# Altium integrated library National Semiconductor Comparator.IntLib: 110 symbols (part 3 of 3)
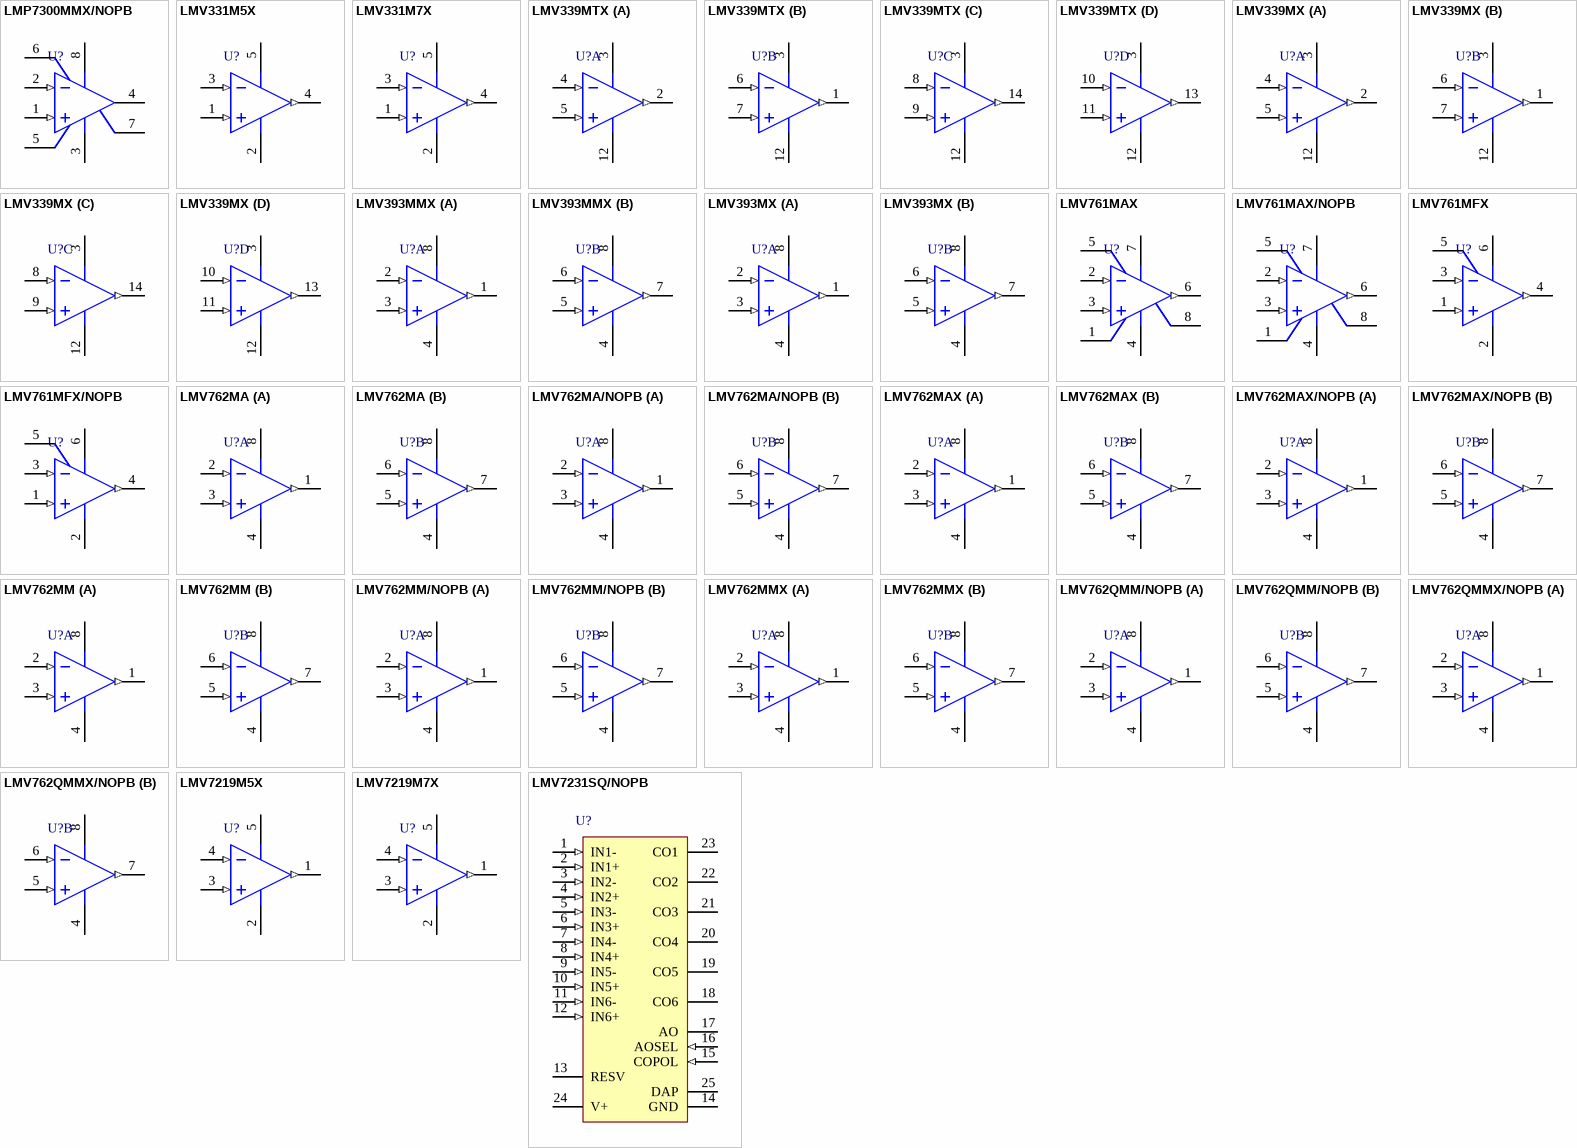
[diagram p6: symbols LMP7300MMX/NOPB to LMV7231SQ/NOPB]

## LMV762MM/NOPB
designator U?
Low Voltage, Precision Comparator with Push-Pull Output, 8-pin Mini SOIC, 1000 Reel; PartNumber: LMV762MM/NOPB; Manufacturer: National Semiconductor; PackageTopMarking: ZXTT*C32A; PowerWise: N; High-Reliability: Y; DatasheetVersion: Dec-2010; PackageVersion: revF, Apr-2008; PackageReference: MUA08A; PackageDescription: MINI SOIC, .118 x .118 x .034in, 8 Lead, .0256in Pitch; RoHS: Y; PinCount: 8; CompType: Comparator; Code_JEDEC: MO-187-AA; ComponentLink1Description: Manufacturer URL; ComponentLink1URL: http://www.national.com/; ComponentLink2Description: LMV762 Datasheet; ComponentLink2URL: http://www.national.com/ds/LM/LMV761.pdf; ComponentLink3Description: LMV762 Web Page; ComponentLink3URL: http://www.national.com/pf/LM/LMV762.html; ComponentLink4Description: MUA08A Package Page; ComponentLink4URL: http://www.national.com/packaging/folders/mua08a.html
footprint MUA08A_N (TSOP, 8-Leads, Body 3x3mm, Pitch 0.65mm, IPC Medium Density)
footprint MUA08A_L (TSOP, 8-Leads, Body 3x3mm, Pitch 0.65mm, IPC High Density)
footprint MUA08A_M (TSOP, 8-Leads, Body 3x3mm, Pitch 0.65mm, IPC Low Density)
pins on every part: 4 V- (power), 8 V+ (power)
part A pins: 1 OUTA (out), 2 INA- (in), 3 INA+ (in)
part B pins: 5 INB+ (in), 6 INB- (in), 7 OUTB (out)

## LMV762MMX
designator U?
Low Voltage, Precision Comparator with Push-Pull Output, 8-pin Mini SOIC, 3500 Reel; PartNumber: LMV762MMX; Manufacturer: National Semiconductor; PackageTopMarking: ZXTT*C23A; PowerWise: N; High-Reliability: Y; DatasheetVersion: Dec-2010; PackageVersion: revF, Apr-2008; PackageReference: MUA08A; PackageDescription: MINI SOIC, .118 x .118 x .034in, 8 Lead, .0256in Pitch; RoHS: N; PinCount: 8; CompType: Comparator; Code_JEDEC: MO-187-AA; ComponentLink1Description: Manufacturer URL; ComponentLink1URL: http://www.national.com/; ComponentLink2Description: LMV762 Datasheet; ComponentLink2URL: http://www.national.com/ds/LM/LMV761.pdf; ComponentLink3Description: LMV762 Web Page; ComponentLink3URL: http://www.national.com/pf/LM/LMV762.html; ComponentLink4Description: MUA08A Package Page; ComponentLink4URL: http://www.national.com/packaging/folders/mua08a.html
footprint MUA08A_N (TSOP, 8-Leads, Body 3x3mm, Pitch 0.65mm, IPC Medium Density)
footprint MUA08A_L (TSOP, 8-Leads, Body 3x3mm, Pitch 0.65mm, IPC High Density)
footprint MUA08A_M (TSOP, 8-Leads, Body 3x3mm, Pitch 0.65mm, IPC Low Density)
pins on every part: 4 V- (power), 8 V+ (power)
part A pins: 1 OUTA (out), 2 INA- (in), 3 INA+ (in)
part B pins: 5 INB+ (in), 6 INB- (in), 7 OUTB (out)

## LMV762QMM/NOPB
designator U?
Low Voltage, Precision Comparator with Push-Pull Output, 8-pin Mini SOIC, 1000 Reel; PartNumber: LMV762QMM/NOPB; Manufacturer: National Semiconductor; PackageTopMarking: ZXTT*C32A; PowerWise: N; High-Reliability: Y; DatasheetVersion: Dec-2010; PackageVersion: revF, Apr-2008; PackageReference: MUA08A; PackageDescription: MINI SOIC, .118 x .118 x .034in, 8 Lead, .0256in Pitch; RoHS: Y; PinCount: 8; CompType: Comparator; Code_JEDEC: MO-187-AA; ComponentLink1Description: Manufacturer URL; ComponentLink1URL: http://www.national.com/; ComponentLink2Description: LMV762 Datasheet; ComponentLink2URL: http://www.national.com/ds/LM/LMV761.pdf; ComponentLink3Description: LMV762 Web Page; ComponentLink3URL: http://www.national.com/pf/LM/LMV762.html; ComponentLink4Description: MUA08A Package Page; ComponentLink4URL: http://www.national.com/packaging/folders/mua08a.html
footprint MUA08A_N (TSOP, 8-Leads, Body 3x3mm, Pitch 0.65mm, IPC Medium Density)
footprint MUA08A_L (TSOP, 8-Leads, Body 3x3mm, Pitch 0.65mm, IPC High Density)
footprint MUA08A_M (TSOP, 8-Leads, Body 3x3mm, Pitch 0.65mm, IPC Low Density)
pins on every part: 4 V- (power), 8 V+ (power)
part A pins: 1 OUTA (out), 2 INA- (in), 3 INA+ (in)
part B pins: 5 INB+ (in), 6 INB- (in), 7 OUTB (out)

## LMV762QMMX/NOPB
designator U?
Low Voltage, Precision Comparator with Push-Pull Output, 8-pin Mini SOIC, 3500 Reel; PartNumber: LMV762QMMX/NOPB; Manufacturer: National Semiconductor; PackageTopMarking: ZXTT*C32A; PowerWise: N; High-Reliability: Y; DatasheetVersion: Dec-2010; PackageVersion: revF, Apr-2008; PackageReference: MUA08A; PackageDescription: MINI SOIC, .118 x .118 x .034in, 8 Lead, .0256in Pitch; RoHS: Y; PinCount: 8; CompType: Comparator; Code_JEDEC: MO-187-AA; ComponentLink1Description: Manufacturer URL; ComponentLink1URL: http://www.national.com/; ComponentLink2Description: LMV762 Datasheet; ComponentLink2URL: http://www.national.com/ds/LM/LMV761.pdf; ComponentLink3Description: LMV762 Web Page; ComponentLink3URL: http://www.national.com/pf/LM/LMV762.html; ComponentLink4Description: MUA08A Package Page; ComponentLink4URL: http://www.national.com/packaging/folders/mua08a.html
footprint MUA08A_N (TSOP, 8-Leads, Body 3x3mm, Pitch 0.65mm, IPC Medium Density)
footprint MUA08A_L (TSOP, 8-Leads, Body 3x3mm, Pitch 0.65mm, IPC High Density)
footprint MUA08A_M (TSOP, 8-Leads, Body 3x3mm, Pitch 0.65mm, IPC Low Density)
pins on every part: 4 V- (power), 8 V+ (power)
part A pins: 1 OUTA (out), 2 INA- (in), 3 INA+ (in)
part B pins: 5 INB+ (in), 6 INB- (in), 7 OUTB (out)

## LMV7219M5X
designator U?
7 nsec, 2.7V to 5V Comparator with Rail-to- Rail Output, 5-pin SOT-23; PartNumber: LMV7219M5X; Manufacturer: National Semiconductor; PackageTopMarking: C14A*XTT; PowerWise: Y; DatasheetVersion: Nov-2004; PackageVersion: revD, Aug-2008; PackageReference: MF05A; PackageDescription: Molded SOT-23, .115 x .063 x .040 in Body, 5 Lead, .0375 in Pitch; RoHS: N; PinCount: 5; CompType: Comparator; High-Reliability: Y; ComponentLink1Description: Manufacturer URL; ComponentLink1URL: http://www.national.com/; ComponentLink2Description: LMV7219 Datasheet; ComponentLink2URL: http://www.national.com/ds/LM/LMV7219.pdf; ComponentLink3Description: LMV7219 Web Page; ComponentLink3URL: http://www.national.com/pf/LM/LMV7219.html; ComponentLink4Description: MF05A Package Page; ComponentLink4URL: http://www.national.com/packaging/folders/mf05a.html
footprint MF05A_N (SOT23, 5-Leads, Body 2.9x1.6mm, Pitch 0.95mm, Lead Span 2.8mm, IPC Medium Density)
footprint MF05A_L (SOT23, 5-Leads, Body 2.9x1.6mm, Pitch 0.95mm, Lead Span 2.8mm, IPC High Density)
footprint MF05A_M (SOT23, 5-Leads, Body 2.9x1.6mm, Pitch 0.95mm, Lead Span 2.8mm, IPC Low Density)
pins: 1 OUT (out), 2 V- (power), 3 IN+ (in), 4 IN- (in), 5 V+ (power)

## LMV7219M7X
designator U?
7 nsec, 2.7V to 5V Comparator with Rail-to- Rail Output, 5-pin SC-70; PartNumber: LMV7219M7X; Manufacturer: National Semiconductor; PackageTopMarking: C15*XTT; PowerWise: Y; DatasheetVersion: Nov-2004; PackageVersion: revD, Jun-2007; PackageReference: MAA05A; PackageDescription: Molded SC-70, 2 x 1.25 x .9mm, 5 Lead, 0.65mm Pitch; RoHS: N; PinCount: 5; CompType: Comparator; High-Reliability: Y; Code_JEITA: SC-88A; Code_JEDEC: MO-203-AA; Code_IPC: SOT353-5; ComponentLink1Description: Manufacturer URL; ComponentLink1URL: http://www.national.com/; ComponentLink2Description: LMV7219 Datasheet; ComponentLink2URL: http://www.national.com/ds/LM/LMV7219.pdf; ComponentLink3Description: LMV7219 Web Page; ComponentLink3URL: http://www.national.com/pf/LM/LMV7219.html; ComponentLink4Description: MAA05A Package Page; ComponentLink4URL: http://www.national.com/packaging/folders/maa05a.html
footprint MAA05A_N (SOT353, 5-Leads, Body 2x1.3mm, Pitch 0.65mm, Lead Span 2.1mm, IPC Medium Density)
footprint MAA05A_L (SOT353, 5-Leads, Body 2x1.3mm, Pitch 0.65mm, Lead Span 2.1mm, IPC High Density)
footprint MAA05A_M (SOT353, 5-Leads, Body 2x1.3mm, Pitch 0.65mm, Lead Span 2.1mm, IPC Low Density)
pins: 1 OUT (out), 2 V- (power), 3 IN+ (in), 4 IN- (in), 5 V+ (power)

## LMV7231SQ/NOPB
designator U?
Hex Window Comparator with 1.5% Precision and 400mV Reference, 24-pin LLP, 1000 Reel; PartNumber: LMV7231SQ/NOPB; Manufacturer: National Semiconductor; PackageTopMarking: NS*UZXYTT*L7231SQ; PowerWise: N; High-Reliability: Y; DatasheetVersion: Dec-2010; PackageVersion: revB, Aug-2003; PackageReference: SQA24A; PackageDescription: LLP, Plastic, Quad, 4 x 4 x 0.8mm Body, 24 Lead, 0.5mm Pitch, No Pullback; RoHS: Y; PinCount: 24; CompType: Comparator; Code_JEDEC: MO-220-WGGD-6; ComponentLink1Description: Manufacturer URL; ComponentLink1URL: http://www.national.com/; ComponentLink2Description: LMV7231 Datasheet; ComponentLink2URL: http://www.national.com/ds/LM/LMV7231.pdf; ComponentLink3Description: LMV7231 Web Page; ComponentLink3URL: http://www.national.com/pf/LM/LMV7231.html; ComponentLink4Description: SQA24A Package Page; ComponentLink4URL: http://www.national.com/packaging/folders/sqa24a.html
footprint SQA24A (QFN, 24-Leads, Body 4x4mm, Pitch 0.5mm, Thermal Pad 2.7x2.7mm, NSC Recommended)
pins: 1 IN1- (in) "Negative input for window comparator 1", 2 IN1+ (in) "Positive input for window comparator 1", 3 IN2- (in) "Negative input for window comparator 2", 4 IN2+ (in) "Positive input for window comparator 2", 5 IN3- (in) "Negative input for window comparator 3", 6 IN3+ (in) "Positive input for window comparator 3", 7 IN4- (in) "Negative input for window comparator 4", 8 IN4+ (in) "Positive input for window comparator 4", 9 IN5- (in) "Negative input for window comparator 5", 10 IN5+ (in) "Positive input for window comparator 5", 11 IN6- (in) "Negative input for window comparator 6", 12 IN6+ (in) "Positive input for window comparator 6", 13 RESV "Connect to GND", 14 GND (power) "Ground reference pin for the power supply voltage", 15 COPOL (in) "The state of this pin determines whether the CO1-CO6 pins are active HIGH or LOW.", 16 AOSEL (in) "The state of this pin determines whether the AO pin is active on an over-voltage or under-voltage event.", 17 AO (oc) "This output is the ANDED combination of either the over- voltage comparator outputs or the under-voltage comparator outputs.", 18 CO6 (oc) "Window comparator 6 NMOS open-drain output", 19 CO5 (oc) "Window comparator 5 NMOS open-drain output", 20 CO4 (oc) "Window comparator 4 NMOS open-drain output", 21 CO3 (oc) "Window comparator 3 NMOS open-drain output", 22 CO2 (oc) "Window comparator 2 NMOS open-drain output", 23 CO1 (oc) "Window comparator 1 NMOS open-drain output", 24 V+ (power) "Power supply pin", 25 DAP (power) "Die Attach Paddle (DAP) connect to GND"

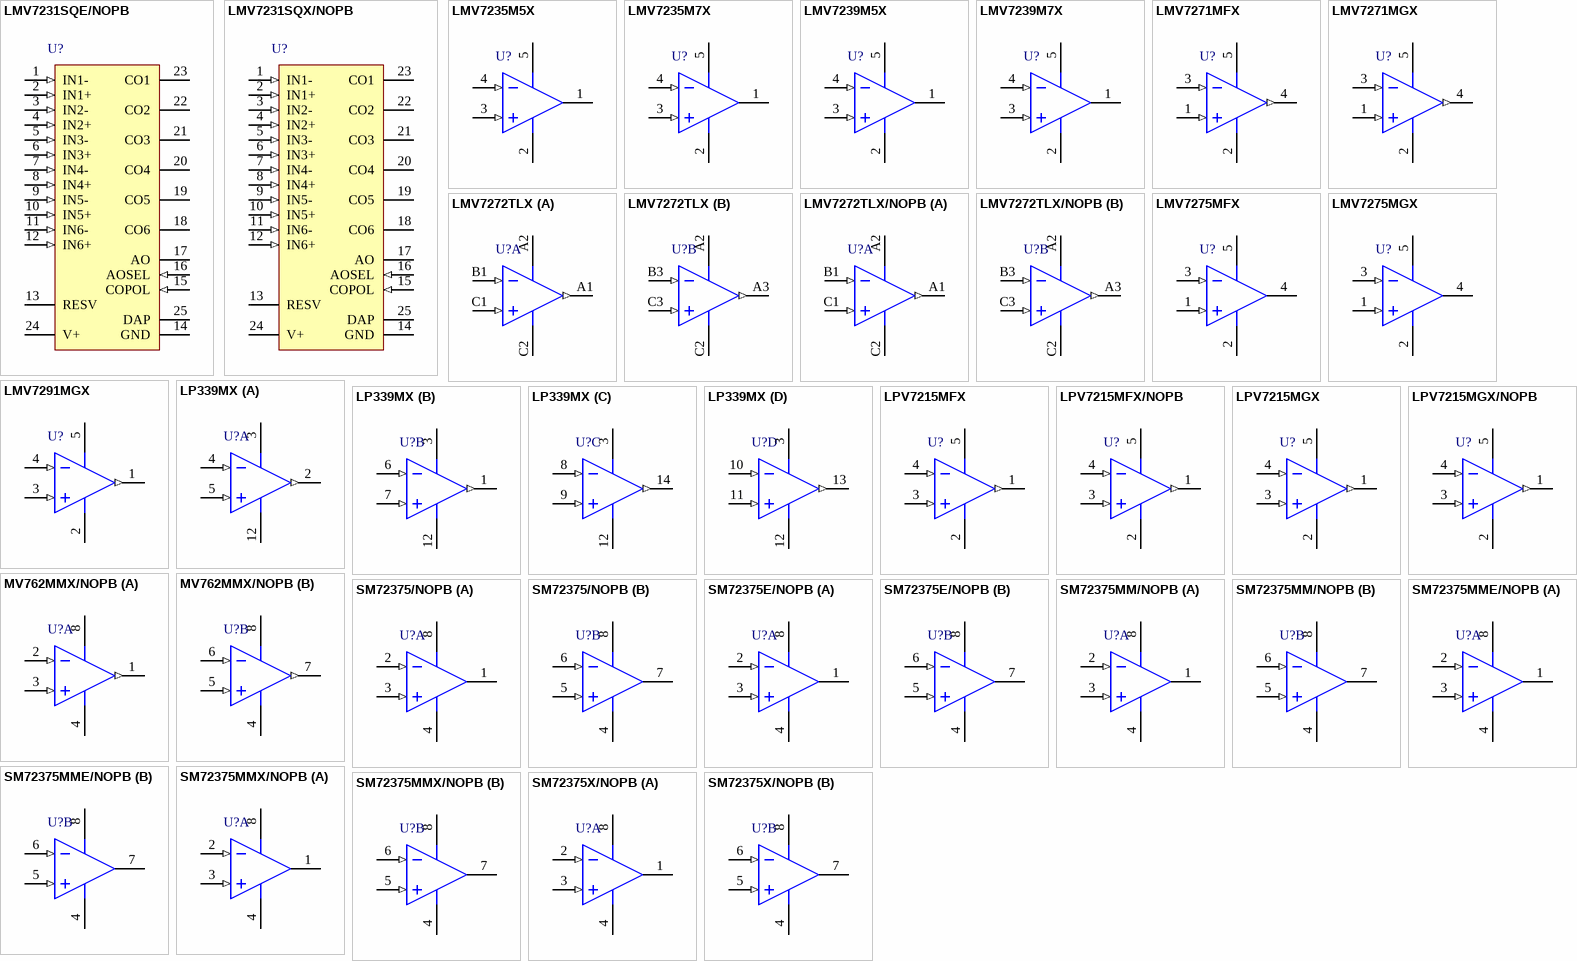
[diagram p4: symbols LMV7231SQE/NOPB to SM72375X/NOPB]

## LMV7231SQE/NOPB
designator U?
Hex Window Comparator with 1.5% Precision and 400mV Reference, 24-pin LLP, 250 Reel; PartNumber: LMV7231SQE/NOPB; Manufacturer: National Semiconductor; PackageTopMarking: NS*UZXYTT*L7231SQ; PowerWise: N; High-Reliability: Y; DatasheetVersion: Dec-2010; PackageVersion: revB, Aug-2003; PackageReference: SQA24A; PackageDescription: LLP, Plastic, Quad, 4 x 4 x 0.8mm Body, 24 Lead, 0.5mm Pitch, No Pullback; RoHS: Y; PinCount: 24; CompType: Comparator; Code_JEDEC: MO-220-WGGD-6; ComponentLink1Description: Manufacturer URL; ComponentLink1URL: http://www.national.com/; ComponentLink2Description: LMV7231 Datasheet; ComponentLink2URL: http://www.national.com/ds/LM/LMV7231.pdf; ComponentLink3Description: LMV7231 Web Page; ComponentLink3URL: http://www.national.com/pf/LM/LMV7231.html; ComponentLink4Description: SQA24A Package Page; ComponentLink4URL: http://www.national.com/packaging/folders/sqa24a.html
footprint SQA24A (QFN, 24-Leads, Body 4x4mm, Pitch 0.5mm, Thermal Pad 2.7x2.7mm, NSC Recommended)
pins: 1 IN1- (in) "Negative input for window comparator 1", 2 IN1+ (in) "Positive input for window comparator 1", 3 IN2- (in) "Negative input for window comparator 2", 4 IN2+ (in) "Positive input for window comparator 2", 5 IN3- (in) "Negative input for window comparator 3", 6 IN3+ (in) "Positive input for window comparator 3", 7 IN4- (in) "Negative input for window comparator 4", 8 IN4+ (in) "Positive input for window comparator 4", 9 IN5- (in) "Negative input for window comparator 5", 10 IN5+ (in) "Positive input for window comparator 5", 11 IN6- (in) "Negative input for window comparator 6", 12 IN6+ (in) "Positive input for window comparator 6", 13 RESV "Connect to GND", 14 GND (power) "Ground reference pin for the power supply voltage", 15 COPOL (in) "The state of this pin determines whether the CO1-CO6 pins are active HIGH or LOW.", 16 AOSEL (in) "The state of this pin determines whether the AO pin is active on an over-voltage or under-voltage event.", 17 AO (oc) "This output is the ANDED combination of either the over- voltage comparator outputs or the under-voltage comparator outputs.", 18 CO6 (oc) "Window comparator 6 NMOS open-drain output", 19 CO5 (oc) "Window comparator 5 NMOS open-drain output", 20 CO4 (oc) "Window comparator 4 NMOS open-drain output", 21 CO3 (oc) "Window comparator 3 NMOS open-drain output", 22 CO2 (oc) "Window comparator 2 NMOS open-drain output", 23 CO1 (oc) "Window comparator 1 NMOS open-drain output", 24 V+ (power) "Power supply pin", 25 DAP (power) "Die Attach Paddle (DAP) connect to GND"

## LMV7231SQX/NOPB
designator U?
Hex Window Comparator with 1.5% Precision and 400mV Reference, 24-pin LLP, 4500 Reel; PartNumber: LMV7231SQX/NOPB; Manufacturer: National Semiconductor; PackageTopMarking: NS*UZXYTT*L7231SQ; PowerWise: N; High-Reliability: Y; DatasheetVersion: Dec-2010; PackageVersion: revB, Aug-2003; PackageReference: SQA24A; PackageDescription: LLP, Plastic, Quad, 4 x 4 x 0.8mm Body, 24 Lead, 0.5mm Pitch, No Pullback; RoHS: Y; PinCount: 24; CompType: Comparator; Code_JEDEC: MO-220-WGGD-6; ComponentLink1Description: Manufacturer URL; ComponentLink1URL: http://www.national.com/; ComponentLink2Description: LMV7231 Datasheet; ComponentLink2URL: http://www.national.com/ds/LM/LMV7231.pdf; ComponentLink3Description: LMV7231 Web Page; ComponentLink3URL: http://www.national.com/pf/LM/LMV7231.html; ComponentLink4Description: SQA24A Package Page; ComponentLink4URL: http://www.national.com/packaging/folders/sqa24a.html
footprint SQA24A (QFN, 24-Leads, Body 4x4mm, Pitch 0.5mm, Thermal Pad 2.7x2.7mm, NSC Recommended)
pins: 1 IN1- (in) "Negative input for window comparator 1", 2 IN1+ (in) "Positive input for window comparator 1", 3 IN2- (in) "Negative input for window comparator 2", 4 IN2+ (in) "Positive input for window comparator 2", 5 IN3- (in) "Negative input for window comparator 3", 6 IN3+ (in) "Positive input for window comparator 3", 7 IN4- (in) "Negative input for window comparator 4", 8 IN4+ (in) "Positive input for window comparator 4", 9 IN5- (in) "Negative input for window comparator 5", 10 IN5+ (in) "Positive input for window comparator 5", 11 IN6- (in) "Negative input for window comparator 6", 12 IN6+ (in) "Positive input for window comparator 6", 13 RESV "Connect to GND", 14 GND (power) "Ground reference pin for the power supply voltage", 15 COPOL (in) "The state of this pin determines whether the CO1-CO6 pins are active HIGH or LOW.", 16 AOSEL (in) "The state of this pin determines whether the AO pin is active on an over-voltage or under-voltage event.", 17 AO (oc) "This output is the ANDED combination of either the over- voltage comparator outputs or the under-voltage comparator outputs.", 18 CO6 (oc) "Window comparator 6 NMOS open-drain output", 19 CO5 (oc) "Window comparator 5 NMOS open-drain output", 20 CO4 (oc) "Window comparator 4 NMOS open-drain output", 21 CO3 (oc) "Window comparator 3 NMOS open-drain output", 22 CO2 (oc) "Window comparator 2 NMOS open-drain output", 23 CO1 (oc) "Window comparator 1 NMOS open-drain output", 24 V+ (power) "Power supply pin", 25 DAP (power) "Die Attach Paddle (DAP) connect to GND"

## LMV7235M5X
designator U?
45 nsec, Ultra Low Power, Low Voltage, Rail-toRail Input Comparator with Open-Drain/Push-Pull Output, 5-pin SOT-23; PartNumber: LMV7235M5X; Manufacturer: National Semiconductor; PackageTopMarking: C21A*XTT; PowerWise: Y; DatasheetVersion: Jul-2008; PackageVersion: revD, Aug-2008; PackageReference: MF05A; PackageDescription: Molded SOT-23, .115 x .063 x .040 in Body, 5 Lead, .0375 in Pitch; RoHS: N; PinCount: 5; CompType: Comparator; High-Reliability: Y; ComponentLink1Description: Manufacturer URL; ComponentLink1URL: http://www.national.com/; ComponentLink2Description: LMV7235 Datasheet; ComponentLink2URL: http://www.national.com/ds/LM/LMV7235.pdf; ComponentLink3Description: LMV7235 Web Page; ComponentLink3URL: http://www.national.com/pf/LM/LMV7235.html; ComponentLink4Description: MF05A Package Page; ComponentLink4URL: http://www.national.com/packaging/folders/mf05a.html
footprint MF05A_N (SOT23, 5-Leads, Body 2.9x1.6mm, Pitch 0.95mm, Lead Span 2.8mm, IPC Medium Density)
footprint MF05A_L (SOT23, 5-Leads, Body 2.9x1.6mm, Pitch 0.95mm, Lead Span 2.8mm, IPC High Density)
footprint MF05A_M (SOT23, 5-Leads, Body 2.9x1.6mm, Pitch 0.95mm, Lead Span 2.8mm, IPC Low Density)
pins: 1 VOUT (oc), 2 V- (power), 3 IN+ (in), 4 IN- (in), 5 V+ (power)

## LMV7235M7X
designator U?
45 nsec, Ultra Low Power, Low Voltage, Rail-toRail Input Comparator with Open-Drain/Push-Pull Output, 5-pin SC-70; PartNumber: LMV7235M7X; Manufacturer: National Semiconductor; PackageTopMarking: C21*XTT; PowerWise: Y; DatasheetVersion: Jul-2008; PackageVersion: revD, Jun-2007; PackageReference: MAA05A; PackageDescription: Molded SC-70, 2 x 1.25 x .9mm, 5 Lead, 0.65mm Pitch; RoHS: N; PinCount: 5; CompType: Comparator; High-Reliability: Y; Code_JEITA: SC-88A; Code_JEDEC: MO-203-AA; Code_IPC: SOT353-5; ComponentLink1Description: Manufacturer URL; ComponentLink1URL: http://www.national.com/; ComponentLink2Description: LMV7235 Datasheet; ComponentLink2URL: http://www.national.com/ds/LM/LMV7235.pdf; ComponentLink3Description: LMV7235 Web Page; ComponentLink3URL: http://www.national.com/pf/LM/LMV7235.html; ComponentLink4Description: MAA05A Package Page; ComponentLink4URL: http://www.national.com/packaging/folders/maa05a.html
footprint MAA05A_N (SOT353, 5-Leads, Body 2x1.3mm, Pitch 0.65mm, Lead Span 2.1mm, IPC Medium Density)
footprint MAA05A_L (SOT353, 5-Leads, Body 2x1.3mm, Pitch 0.65mm, Lead Span 2.1mm, IPC High Density)
footprint MAA05A_M (SOT353, 5-Leads, Body 2x1.3mm, Pitch 0.65mm, Lead Span 2.1mm, IPC Low Density)
pins: 1 VOUT (oc), 2 V- (power), 3 IN+ (in), 4 IN- (in), 5 V+ (power)

## LMV7239M5X
designator U?
45 nsec, Ultra Low Power, Low Voltage, Rail-to-Rail Input Comparator with Open-Drain/Push-Pull Output, 5-pin SOT-23; PartNumber: LMV7239M5X; Manufacturer: National Semiconductor; PackageTopMarking: C20A*XTT; PowerWise: Y; DatasheetVersion: Jul-2008; PackageVersion: revD, Aug-2008; PackageReference: MF05A; PackageDescription: Molded SOT-23, .115 x .063 x .040 in Body, 5 Lead, .0375 in Pitch; RoHS: N; PinCount: 5; CompType: Comparator; High-Reliability: Y; ComponentLink1Description: Manufacturer URL; ComponentLink1URL: http://www.national.com/; ComponentLink2Description: LMV7239 Datasheet; ComponentLink2URL: http://www.national.com/ds/LM/LMV7239.pdf; ComponentLink3Description: LMV7239 Web Page; ComponentLink3URL: http://www.national.com/pf/LM/LMV7239.html; ComponentLink4Description: MF05A Package Page; ComponentLink4URL: http://www.national.com/packaging/folders/mf05a.html
footprint MF05A_N (SOT23, 5-Leads, Body 2.9x1.6mm, Pitch 0.95mm, Lead Span 2.8mm, IPC Medium Density)
footprint MF05A_L (SOT23, 5-Leads, Body 2.9x1.6mm, Pitch 0.95mm, Lead Span 2.8mm, IPC High Density)
footprint MF05A_M (SOT23, 5-Leads, Body 2.9x1.6mm, Pitch 0.95mm, Lead Span 2.8mm, IPC Low Density)
pins: 1 VOUT (oc), 2 V- (power), 3 IN+ (in), 4 IN- (in), 5 V+ (power)

## LMV7239M7X
designator U?
45 nsec, Ultra Low Power, Low Voltage, Rail-to-Rail Input Comparator with Open-Drain/Push-Pull Output, 5-pin SC-70; PartNumber: LMV7239M7X; Manufacturer: National Semiconductor; PackageTopMarking: C20*XTT; PowerWise: Y; DatasheetVersion: Jul-2008; PackageVersion: revD, Jun-2007; PackageReference: MAA05A; PackageDescription: Molded SC-70, 2 x 1.25 x .9mm, 5 Lead, 0.65mm Pitch; RoHS: N; PinCount: 5; CompType: Comparator; High-Reliability: Y; Code_JEITA: SC-88A; Code_JEDEC: MO-203-AA; Code_IPC: SOT353-5; ComponentLink1Description: Manufacturer URL; ComponentLink1URL: http://www.national.com/; ComponentLink2Description: LMV7239 Datasheet; ComponentLink2URL: http://www.national.com/ds/LM/LMV7239.pdf; ComponentLink3Description: LMV7239 Web Page; ComponentLink3URL: http://www.national.com/pf/LM/LMV7239.html; ComponentLink4Description: MAA05A Package Page; ComponentLink4URL: http://www.national.com/packaging/folders/maa05a.html
footprint MAA05A_N (SOT353, 5-Leads, Body 2x1.3mm, Pitch 0.65mm, Lead Span 2.1mm, IPC Medium Density)
footprint MAA05A_L (SOT353, 5-Leads, Body 2x1.3mm, Pitch 0.65mm, Lead Span 2.1mm, IPC High Density)
footprint MAA05A_M (SOT353, 5-Leads, Body 2x1.3mm, Pitch 0.65mm, Lead Span 2.1mm, IPC Low Density)
pins: 1 VOUT (oc), 2 V- (power), 3 IN+ (in), 4 IN- (in), 5 V+ (power)

## LMV7271MFX
designator U?
Single 1.8V Low Power Comparators with Rail-to-Rail Input, 5-pin SOT-23; PartNumber: LMV7271MFX; Manufacturer: National Semiconductor; PackageTopMarking: C25A*XTT; PowerWise: Y; DatasheetVersion: May-2008; PackageVersion: revD, Aug-2008; PackageReference: MF05A; PackageDescription: Molded SOT-23, .115 x .063 x .040 in Body, 5 Lead, .0375 in Pitch; RoHS: Y; PinCount: 5; CompType: Comparator; High-Reliability: Y; ComponentLink1Description: Manufacturer URL; ComponentLink1URL: http://www.national.com/; ComponentLink2Description: LMV7271 Datasheet; ComponentLink2URL: http://www.national.com/ds/LM/LMV7271.pdf; ComponentLink3Description: LMV7271  Web Page; ComponentLink3URL: http://www.national.com/pf/LM/LMV7271.html; ComponentLink4Description: MF05A Package Page; ComponentLink4URL: http://www.national.com/packaging/folders/mf05a.html
footprint MF05A_N (SOT23, 5-Leads, Body 2.9x1.6mm, Pitch 0.95mm, Lead Span 2.8mm, IPC Medium Density)
footprint MF05A_L (SOT23, 5-Leads, Body 2.9x1.6mm, Pitch 0.95mm, Lead Span 2.8mm, IPC High Density)
footprint MF05A_M (SOT23, 5-Leads, Body 2.9x1.6mm, Pitch 0.95mm, Lead Span 2.8mm, IPC Low Density)
pins: 1 IN+ (in), 2 GND (power), 3 IN- (in), 4 OUT (out), 5 V+ (power)

## LMV7271MGX
designator U?
Single 1.8V Low Power Comparators with Rail-to-Rail Input, 5-pin SC-70; PartNumber: LMV7271MGX; Manufacturer: National Semiconductor; PackageTopMarking: C34*XTT; PowerWise: Y; DatasheetVersion: May-2008; PackageVersion: revD, Jun-2007; PackageReference: MAA05A; PackageDescription: Molded SC-70, 2 x 1.25 x .9mm, 5 Lead, 0.65mm Pitch; RoHS: N; PinCount: 5; CompType: Comparator; High-Reliability: Y; Code_JEITA: SC-88A; Code_JEDEC: MO-203-AA; Code_IPC: SOT353-5; ComponentLink1Description: Manufacturer URL; ComponentLink1URL: http://www.national.com/; ComponentLink2Description: LMV7271 Datasheet; ComponentLink2URL: http://www.national.com/ds/LM/LMV7271.pdf; ComponentLink3Description: LMV7271 Web Page; ComponentLink3URL: http://www.national.com/pf/LM/LMV7271.html; ComponentLink4Description: MAA05A Package Page; ComponentLink4URL: http://www.national.com/packaging/folders/maa05a.html
footprint MAA05A_N (SOT353, 5-Leads, Body 2x1.3mm, Pitch 0.65mm, Lead Span 2.1mm, IPC Medium Density)
footprint MAA05A_L (SOT353, 5-Leads, Body 2x1.3mm, Pitch 0.65mm, Lead Span 2.1mm, IPC High Density)
footprint MAA05A_M (SOT353, 5-Leads, Body 2x1.3mm, Pitch 0.65mm, Lead Span 2.1mm, IPC Low Density)
pins: 1 IN+ (in), 2 GND (power), 3 IN- (in), 4 OUT (out), 5 V+ (power)

## LMV7272TLX
designator U?
Dual 1.8V Low Power Comparators with Rail-to-Rail Input, 8-pin Micro SMD; PartNumber: LMV7272TLX; Manufacturer: National Semiconductor; PackageTopMarking: XVC*I 01; PowerWise: Y; DatasheetVersion: May-2008; PackageVersion: revC, Jan-2004; PackageReference: TLA08AAA; PackageDescription: Thin Micro SMD, 8 Bump (Large), 0.5mm Pitch; RoHS: N; PinCount: 8; CompType: Comparator; High-Reliability: Y; ComponentLink1Description: Manufacturer URL; ComponentLink1URL: http://www.national.com/; ComponentLink2Description: LMV7272 Datasheet; ComponentLink2URL: http://www.national.com/ds/LM/LMV7272.pdf; ComponentLink3Description: LMV7272  Web Page; ComponentLink3URL: http://www.national.com/pf/LM/LMV7272.html; ComponentLink4Description: TLA08AAA Package Page; ComponentLink4URL: http://www.national.com/packaging/folders/tla08aaa.html
footprint TLA08AAA (Micro SMD, 8-Leads, Body 1.52x1.52mm, Pitch 0.5mm, NSC Recommended)
pins on every part: A2 V+ (power), C2 V- (power)
part A pins: A1 OUTA (out), B1 INA- (in), C1 INA+ (in)
part B pins: A3 OUTB (out), B3 INB- (in), C3 INB+ (in)

## LMV7272TLX/NOPB
designator U?
Dual 1.8V Low Power Comparators with Rail-to-Rail Input, 8-pin Micro SMD, Pb-Free; PartNumber: LMV7272TLX/NOPB; Manufacturer: National Semiconductor; PackageTopMarking: XVC*I 01; PowerWise: Y; DatasheetVersion: May-2008; PackageVersion: revC, Jan-2004; PackageReference: TLA08AAA; PackageDescription: Thin Micro SMD, 8 Bump (Large), 0.5mm Pitch; RoHS: Y; PinCount: 8; CompType: Comparator; High-Reliability: Y; ComponentLink1Description: Manufacturer URL; ComponentLink1URL: http://www.national.com/; ComponentLink2Description: LMV7272 Datasheet; ComponentLink2URL: http://www.national.com/ds/LM/LMV7272.pdf; ComponentLink3Description: LMV7272 Web Page; ComponentLink3URL: http://www.national.com/pf/LM/LMV7272.html; ComponentLink4Description: TLA08AAA Package Page; ComponentLink4URL: http://www.national.com/packaging/folders/tla08aaa.html
footprint TLA08AAA (Micro SMD, 8-Leads, Body 1.52x1.52mm, Pitch 0.5mm, NSC Recommended)
pins on every part: A2 V+ (power), C2 V- (power)
part A pins: A1 OUTA (out), B1 INA- (in), C1 INA+ (in)
part B pins: A3 OUTB (out), B3 INB- (in), C3 INB+ (in)

## LMV7275MFX
designator U?
Single 1.8V Low Power Comparators with Rail-to-Rail Input, 5-pin SOT-23; PartNumber: LMV7275MFX; Manufacturer: National Semiconductor; PackageTopMarking: C26A*XTT; PowerWise: Y; DatasheetVersion: May-2008; PackageVersion: revD, Aug-2008; PackageReference: MF05A; PackageDescription: Molded SOT-23, .115 x .063 x .040 in Body, 5 Lead, .0375 in Pitch; RoHS: N; PinCount: 5; CompType: Comparator; High-Reliability: Y; ComponentLink1Description: Manufacturer URL; ComponentLink1URL: http://www.national.com/; ComponentLink2Description: LMV7275 Datasheet; ComponentLink2URL: http://www.national.com/ds/LM/LMV7275.pdf; ComponentLink3Description: LMV7275 Web Page; ComponentLink3URL: http://www.national.com/pf/LM/LMV7275.html; ComponentLink4Description: MF05A Package Page; ComponentLink4URL: http://www.national.com/packaging/folders/mf05a.html
footprint MF05A_N (SOT23, 5-Leads, Body 2.9x1.6mm, Pitch 0.95mm, Lead Span 2.8mm, IPC Medium Density)
footprint MF05A_L (SOT23, 5-Leads, Body 2.9x1.6mm, Pitch 0.95mm, Lead Span 2.8mm, IPC High Density)
footprint MF05A_M (SOT23, 5-Leads, Body 2.9x1.6mm, Pitch 0.95mm, Lead Span 2.8mm, IPC Low Density)
pins: 1 IN+ (in), 2 GND (power), 3 IN- (in), 4 OUT (oc), 5 V+ (power)

## LMV7275MGX
designator U?
Single 1.8V Low Power Comparators with Rail-to-Rail Input, 5-pin SC-70; PartNumber: LMV7275MGX; Manufacturer: National Semiconductor; PackageTopMarking: C35*XTT; PowerWise: Y; DatasheetVersion: May-2008; PackageVersion: revD, Jun-2007; PackageReference: MAA05A; PackageDescription: Molded SC-70, 2 x 1.25 x .9mm, 5 Lead, 0.65mm Pitch; RoHS: N; PinCount: 5; CompType: Comparator; High-Reliability: Y; Code_JEITA: SC-88A; Code_JEDEC: MO-203-AA; Code_IPC: SOT353-5; ComponentLink1Description: Manufacturer URL; ComponentLink1URL: http://www.national.com/; ComponentLink2Description: LMV7275 Datasheet; ComponentLink2URL: http://www.national.com/ds/LM/LMV7275.pdf; ComponentLink3Description: LMV7275 Web Page; ComponentLink3URL: http://www.national.com/pf/LM/LMV7275.html; ComponentLink4Description: MAA05A Package Page; ComponentLink4URL: http://www.national.com/packaging/folders/maa05a.html
footprint MAA05A_N (SOT353, 5-Leads, Body 2x1.3mm, Pitch 0.65mm, Lead Span 2.1mm, IPC Medium Density)
footprint MAA05A_L (SOT353, 5-Leads, Body 2x1.3mm, Pitch 0.65mm, Lead Span 2.1mm, IPC High Density)
footprint MAA05A_M (SOT353, 5-Leads, Body 2x1.3mm, Pitch 0.65mm, Lead Span 2.1mm, IPC Low Density)
pins: 1 IN+ (in), 2 GND (power), 3 IN- (in), 4 OUT (oc), 5 V+ (power)

## LMV7291MGX
designator U?
Single 1.8V Power Comparator with Rail-to-Rail Input, 5-pin SC-70; PartNumber: LMV7291MGX; Manufacturer: National Semiconductor; PackageTopMarking: C36*XTT; PowerWise: Y; DatasheetVersion: Mar-2004; PackageVersion: revD, Jun-2007; PackageReference: MAA05A; PackageDescription: Molded SC-70, 2 x 1.25 x .9mm, 5 Lead, 0.65mm Pitch; RoHS: N; PinCount: 5; CompType: Comparator; High-Reliability: Y; Code_JEITA: SC-88A; Code_JEDEC: MO-203-AA; Code_IPC: SOT353-5; ComponentLink1Description: Manufacturer URL; ComponentLink1URL: http://www.national.com/; ComponentLink2Description: LMV7291 Datasheet; ComponentLink2URL: http://www.national.com/ds/LM/LMV7291.pdf; ComponentLink3Description: LMV7291 Web Page; ComponentLink3URL: http://www.national.com/pf/LM/LMV7291.html; ComponentLink4Description: MAA05A Package Page; ComponentLink4URL: http://www.national.com/packaging/folders/maa05a.html
footprint MAA05A_N (SOT353, 5-Leads, Body 2x1.3mm, Pitch 0.65mm, Lead Span 2.1mm, IPC Medium Density)
footprint MAA05A_L (SOT353, 5-Leads, Body 2x1.3mm, Pitch 0.65mm, Lead Span 2.1mm, IPC High Density)
footprint MAA05A_M (SOT353, 5-Leads, Body 2x1.3mm, Pitch 0.65mm, Lead Span 2.1mm, IPC Low Density)
pins: 1 OUT (out), 2 GND (power), 3 IN+ (in), 4 IN- (in), 5 V+ (power)

## LP339MX
designator U?
Ultra-Low Power Quad Comparator, 14-pin Narrow SOIC; PartNumber: LP339MX; Manufacturer: National Semiconductor; PackageTopMarking: NSUZXYTTE#*LP339M; PowerWise: N; High-Reliability: Y; DatasheetVersion: Aug-2000; PackageVersion: revJ, Jan-1996; PackageReference: M14A; PackageDescription: Molded Package S.O., .150in Wide, 14 Lead; RoHS: N; PinCount: 14; CompType: Comparator; Code_JEDEC: MS-012AB; Code_IPC: SOIC127P600-14; ComponentLink1Description: Manufacturer URL; ComponentLink1URL: http://www.national.com/; ComponentLink2Description: LP339 Datasheet; ComponentLink2URL: http://www.national.com/ds/LP/LP339.pdf; ComponentLink3Description: LP339 Web Page; ComponentLink3URL: http://www.national.com/pf/LP/LP339.html; ComponentLink4Description: M14A Package Page; ComponentLink4URL: http://www.national.com/packaging/folders/m14a.html
footprint M14A_N (SOIC, 14-Leads, Body 8.6x3.9mm, Pitch 1.27mm, IPC Medium Density)
footprint M14A_L (SOIC, 14-Leads, Body 8.6x3.9mm, Pitch 1.27mm, IPC High Density)
footprint M14A_M (SOIC, 14-Leads, Body 8.6x3.9mm, Pitch 1.27mm, IPC Low Density)
pins on every part: 3 V+ (power), 12 GND (power)
part A pins: 2 OUT1 (out), 4 IN1- (in), 5 IN1+ (in)
part B pins: 1 OUT2 (out), 6 IN2- (in), 7 IN2+ (in)
part C pins: 8 IN3- (in), 9 IN3+ (in), 14 OUT3 (out)
part D pins: 10 IN4- (in), 11 IN4+ (in), 13 OUT4 (out)

## LPV7215MFX
designator U?
Micropower, CMOS Input, RRIO, 1.8V, Push-Pull Output Comparator, 5-pin SOT-23; PartNumber: LPV7215MFX; Manufacturer: National Semiconductor; PackageTopMarking: C30A*XTT; PowerWise: Y; DatasheetVersion: Dec-2007; PackageVersion: revD, Aug-2008; PackageReference: MF05A; PackageDescription: Molded SOT-23, .115 x .063 x .040 in Body, 5 Lead, .0375 in Pitch; RoHS: Y; PinCount: 5; CompType: Comparator; High-Reliability: Y; ComponentLink1Description: Manufacturer URL; ComponentLink1URL: http://www.national.com/; ComponentLink2Description: LPV7215 Datasheet; ComponentLink2URL: http://www.national.com/ds/LP/LPV7215.pdf; ComponentLink3Description: LPV7215  Web Page; ComponentLink3URL: http://www.national.com/pf/LM/LPV7215.html; ComponentLink4Description: MF05A Package Page; ComponentLink4URL: http://www.national.com/packaging/folders/mf05a.html
footprint MF05A_N (SOT23, 5-Leads, Body 2.9x1.6mm, Pitch 0.95mm, Lead Span 2.8mm, IPC Medium Density)
footprint MF05A_L (SOT23, 5-Leads, Body 2.9x1.6mm, Pitch 0.95mm, Lead Span 2.8mm, IPC High Density)
footprint MF05A_M (SOT23, 5-Leads, Body 2.9x1.6mm, Pitch 0.95mm, Lead Span 2.8mm, IPC Low Density)
pins: 1 VOUT (out), 2 V- (power), 3 IN+ (in), 4 IN- (in), 5 V+ (power)

## LPV7215MFX/NOPB
designator U?
Micropower, CMOS Input, RRIO, 1.8V, Push-Pull Output Comparator, 5-pin SOT-23, Pb-Free; PartNumber: LPV7215MFX/NOPB; Manufacturer: National Semiconductor; PackageTopMarking: C30A*XTT; PowerWise: Y; DatasheetVersion: Dec-2007; PackageVersion: revD, Aug-2008; PackageReference: MF05A; PackageDescription: Molded SOT-23, .115 x .063 x .040 in Body, 5 Lead, .0375 in Pitch; RoHS: Y; PinCount: 5; CompType: Comparator; High-Reliability: Y; ComponentLink1Description: Manufacturer URL; ComponentLink1URL: http://www.national.com/; ComponentLink2Description: LPV7215 Datasheet; ComponentLink2URL: http://www.national.com/ds/LP/LPV7215.pdf; ComponentLink3Description: LPV7215 Web Page; ComponentLink3URL: http://www.national.com/pf/LP/LPV7215.html; ComponentLink4Description: MF05A Package Page; ComponentLink4URL: http://www.national.com/packaging/folders/mf05a.html
footprint MF05A_N (SOT23, 5-Leads, Body 2.9x1.6mm, Pitch 0.95mm, Lead Span 2.8mm, IPC Medium Density)
footprint MF05A_L (SOT23, 5-Leads, Body 2.9x1.6mm, Pitch 0.95mm, Lead Span 2.8mm, IPC High Density)
footprint MF05A_M (SOT23, 5-Leads, Body 2.9x1.6mm, Pitch 0.95mm, Lead Span 2.8mm, IPC Low Density)
pins: 1 VOUT (out), 2 V- (power), 3 IN+ (in), 4 IN- (in), 5 V+ (power)

## LPV7215MGX
designator U?
Micropower, CMOS Input, RRIO, 1.8V, Push-Pull Output Comparator, 5-pin SC-70; PartNumber: LPV7215MGX; Manufacturer: National Semiconductor; PackageTopMarking: C37*XTT; PowerWise: Y; DatasheetVersion: Dec-2007; PackageVersion: revD, Jun-2007; PackageReference: MAA05A; PackageDescription: Molded SC-70, 2 x 1.25 x .9mm, 5 Lead, 0.65mm Pitch; RoHS: Y; PinCount: 5; CompType: Comparator; High-Reliability: Y; Code_JEITA: SC-88A; Code_JEDEC: MO-203-AA; Code_IPC: SOT353-5; ComponentLink1Description: Manufacturer URL; ComponentLink1URL: http://www.national.com/; ComponentLink2Description: LPV7215 Datasheet; ComponentLink2URL: http://www.national.com/ds/LP/LPV7215.pdf; ComponentLink3Description: LPV7215  Web Page; ComponentLink3URL: http://www.national.com/pf/LM/LPV7215.html; ComponentLink4Description: MAA05A Package Page; ComponentLink4URL: http://www.national.com/packaging/folders/maa05a.html
footprint MAA05A_N (SOT353, 5-Leads, Body 2x1.3mm, Pitch 0.65mm, Lead Span 2.1mm, IPC Medium Density)
footprint MAA05A_L (SOT353, 5-Leads, Body 2x1.3mm, Pitch 0.65mm, Lead Span 2.1mm, IPC High Density)
footprint MAA05A_M (SOT353, 5-Leads, Body 2x1.3mm, Pitch 0.65mm, Lead Span 2.1mm, IPC Low Density)
pins: 1 VOUT (out), 2 V- (power), 3 IN+ (in), 4 IN- (in), 5 V+ (power)

## LPV7215MGX/NOPB
designator U?
Micropower, CMOS Input, RRIO, 1.8V, Push-Pull Output Comparator, 5-pin SC-70, Pb-Free; PartNumber: LPV7215MGX/NOPB; Manufacturer: National Semiconductor; PackageTopMarking: C37*XTT; PowerWise: Y; DatasheetVersion: Dec-2007; PackageVersion: revD, Jun-2007; PackageReference: MAA05A; PackageDescription: Molded SC-70, 2 x 1.25 x .9mm, 5 Lead, 0.65mm Pitch; RoHS: Y; PinCount: 5; CompType: Comparator; High-Reliability: Y; Code_JEITA: SC-88A; Code_JEDEC: MO-203-AA; Code_IPC: SOT353-5; ComponentLink1Description: Manufacturer URL; ComponentLink1URL: http://www.national.com/; ComponentLink2Description: LPV7215 Datasheet; ComponentLink2URL: http://www.national.com/ds/LP/LPV7215.pdf; ComponentLink3Description: LPV7215 Web Page; ComponentLink3URL: http://www.national.com/pf/LP/LPV7215.html; ComponentLink4Description: MAA05A Package Page; ComponentLink4URL: http://www.national.com/packaging/folders/maa05a.html
footprint MAA05A_N (SOT353, 5-Leads, Body 2x1.3mm, Pitch 0.65mm, Lead Span 2.1mm, IPC Medium Density)
footprint MAA05A_L (SOT353, 5-Leads, Body 2x1.3mm, Pitch 0.65mm, Lead Span 2.1mm, IPC High Density)
footprint MAA05A_M (SOT353, 5-Leads, Body 2x1.3mm, Pitch 0.65mm, Lead Span 2.1mm, IPC Low Density)
pins: 1 VOUT (out), 2 V- (power), 3 IN+ (in), 4 IN- (in), 5 V+ (power)

## MV762MMX/NOPB
designator U?
Low Voltage, Precision Comparator with Push-Pull Output, 8-pin Mini SOIC, 3500 Reel; PartNumber: MV762MMX/NOPB; Manufacturer: National Semiconductor; PackageTopMarking: ZXTT*C23A; PowerWise: N; High-Reliability: Y; DatasheetVersion: Dec-2010; PackageVersion: revF, Apr-2008; PackageReference: MUA08A; PackageDescription: MINI SOIC, .118 x .118 x .034in, 8 Lead, .0256in Pitch; RoHS: Y; PinCount: 8; CompType: Comparator; Code_JEDEC: MO-187-AA; ComponentLink1Description: Manufacturer URL; ComponentLink1URL: http://www.national.com/; ComponentLink2Description: LMV762 Datasheet; ComponentLink2URL: http://www.national.com/ds/LM/LMV761.pdf; ComponentLink3Description: LMV762 Web Page; ComponentLink3URL: http://www.national.com/pf/LM/LMV762.html; ComponentLink4Description: MUA08A Package Page; ComponentLink4URL: http://www.national.com/packaging/folders/mua08a.html
footprint MUA08A_N (TSOP, 8-Leads, Body 3x3mm, Pitch 0.65mm, IPC Medium Density)
footprint MUA08A_L (TSOP, 8-Leads, Body 3x3mm, Pitch 0.65mm, IPC High Density)
footprint MUA08A_M (TSOP, 8-Leads, Body 3x3mm, Pitch 0.65mm, IPC Low Density)
pins on every part: 4 V- (power), 8 V+ (power)
part A pins: 1 OUTA (out), 2 INA- (in), 3 INA+ (in)
part B pins: 5 INB+ (in), 6 INB- (in), 7 OUTB (out)

## SM72375/NOPB
designator U?
SolarMagic Dual Micro-Power Rail-to-Rail Input CMOS Comparator with Open Drain Output, AECQ 1, 8-pin Mini SOIC, 3500 Reel; PartNumber: SM72375/NOPB; Manufacturer: National Semiconductor; PackageTopMarking: ZXTT*S375; PowerWise: N; High-Reliability: Y; DatasheetVersion: Mar-2011; PackageVersion: revF, Apr-2008; PackageReference: MUA08A; PackageDescription: MINI SOIC, .118 x .118 x .034in, 8 Lead, .0256in Pitch; RoHS: Y; PinCount: 8; CompType: Comparator; Code_JEDEC: MO-187-AA; ComponentLink1Description: Manufacturer URL; ComponentLink1URL: http://www.national.com/; ComponentLink2Description: SM72375 Datasheet; ComponentLink2URL: http://www.national.com/ds/SM/SM72375.pdf; ComponentLink3Description: SM72375 Web Page; ComponentLink3URL: http://www.national.com/pf/SM/SM72375.html; ComponentLink4Description: MUA08A Package Page; ComponentLink4URL: http://www.national.com/packaging/folders/mua08a.html
footprint MUA08A_N (TSOP, 8-Leads, Body 3x3mm, Pitch 0.65mm, IPC Medium Density)
footprint MUA08A_L (TSOP, 8-Leads, Body 3x3mm, Pitch 0.65mm, IPC High Density)
footprint MUA08A_M (TSOP, 8-Leads, Body 3x3mm, Pitch 0.65mm, IPC Low Density)
pins on every part: 4 V- (power), 8 V+ (power)
part A pins: 1 OUTA (oc), 2 INA- (in), 3 INA+ (in)
part B pins: 5 INB+ (in), 6 INB- (in), 7 OUTB (oc)

## SM72375E/NOPB
designator U?
SolarMagic Dual Micro-Power Rail-to-Rail Input CMOS Comparator with Open Drain Output, AECQ 1, 8-pin Mini SOIC, 250 Reel; PartNumber: SM72375E/NOPB; Manufacturer: National Semiconductor; PackageTopMarking: ZXTT*S375; PowerWise: N; High-Reliability: Y; DatasheetVersion: Mar-2011; PackageVersion: revF, Apr-2008; PackageReference: MUA08A; PackageDescription: MINI SOIC, .118 x .118 x .034in, 8 Lead, .0256in Pitch; RoHS: Y; PinCount: 8; CompType: Comparator; Code_JEDEC: MO-187-AA; ComponentLink1Description: Manufacturer URL; ComponentLink1URL: http://www.national.com/; ComponentLink2Description: SM72375 Datasheet; ComponentLink2URL: http://www.national.com/ds/SM/SM72375.pdf; ComponentLink3Description: SM72375 Web Page; ComponentLink3URL: http://www.national.com/pf/SM/SM72375.html; ComponentLink4Description: MUA08A Package Page; ComponentLink4URL: http://www.national.com/packaging/folders/mua08a.html
footprint MUA08A_N (TSOP, 8-Leads, Body 3x3mm, Pitch 0.65mm, IPC Medium Density)
footprint MUA08A_L (TSOP, 8-Leads, Body 3x3mm, Pitch 0.65mm, IPC High Density)
footprint MUA08A_M (TSOP, 8-Leads, Body 3x3mm, Pitch 0.65mm, IPC Low Density)
pins on every part: 4 V- (power), 8 V+ (power)
part A pins: 1 OUTA (oc), 2 INA- (in), 3 INA+ (in)
part B pins: 5 INB+ (in), 6 INB- (in), 7 OUTB (oc)

## SM72375MM/NOPB
designator U?
SolarMagic Dual Micro-Power Rail-to-Rail Input CMOS Comparator with Open Drain Output, 8-pin Mini SOIC, 1000 Reel; PartNumber: SM72375MM/NOPB; Manufacturer: National Semiconductor; PackageTopMarking: ZXTT*S375; PowerWise: N; High-Reliability: Y; DatasheetVersion: May-2011; PackageVersion: revF, Apr-2008; PackageReference: MUA08A; PackageDescription: MINI SOIC, .118 x .118 x .034in, 8 Lead, .0256in Pitch; RoHS: Y; PinCount: 8; CompType: Comparator; Code_JEDEC: MO-187-AA; ComponentLink1Description: Manufacturer URL; ComponentLink1URL: http://www.national.com/; ComponentLink2Description: SM72375 Datasheet; ComponentLink2URL: http://www.national.com/ds/SM/SM72375.pdf; ComponentLink3Description: SM72375 Web Page; ComponentLink3URL: http://www.national.com/pf/SM/SM72375.html; ComponentLink4Description: MUA08A Package Page; ComponentLink4URL: http://www.national.com/packaging/folders/mua08a.html
footprint MUA08A_N (TSOP, 8-Leads, Body 3x3mm, Pitch 0.65mm, IPC Medium Density)
footprint MUA08A_L (TSOP, 8-Leads, Body 3x3mm, Pitch 0.65mm, IPC High Density)
footprint MUA08A_M (TSOP, 8-Leads, Body 3x3mm, Pitch 0.65mm, IPC Low Density)
pins on every part: 4 V- (power), 8 V+ (power)
part A pins: 1 OUTA (oc), 2 INA- (in), 3 INA+ (in)
part B pins: 5 INB+ (in), 6 INB- (in), 7 OUTB (oc)

## SM72375MME/NOPB
designator U?
SolarMagic Dual Micro-Power Rail-to-Rail Input CMOS Comparator with Open Drain Output, 8-pin Mini SOIC, 250 Reel; PartNumber: SM72375MME/NOPB; Manufacturer: National Semiconductor; PackageTopMarking: ZXTT*S375; PowerWise: N; High-Reliability: Y; DatasheetVersion: May-2011; PackageVersion: revF, Apr-2008; PackageReference: MUA08A; PackageDescription: MINI SOIC, .118 x .118 x .034in, 8 Lead, .0256in Pitch; RoHS: Y; PinCount: 8; CompType: Comparator; Code_JEDEC: MO-187-AA; ComponentLink1Description: Manufacturer URL; ComponentLink1URL: http://www.national.com/; ComponentLink2Description: SM72375 Datasheet; ComponentLink2URL: http://www.national.com/ds/SM/SM72375.pdf; ComponentLink3Description: SM72375 Web Page; ComponentLink3URL: http://www.national.com/pf/SM/SM72375.html; ComponentLink4Description: MUA08A Package Page; ComponentLink4URL: http://www.national.com/packaging/folders/mua08a.html
footprint MUA08A_N (TSOP, 8-Leads, Body 3x3mm, Pitch 0.65mm, IPC Medium Density)
footprint MUA08A_L (TSOP, 8-Leads, Body 3x3mm, Pitch 0.65mm, IPC High Density)
footprint MUA08A_M (TSOP, 8-Leads, Body 3x3mm, Pitch 0.65mm, IPC Low Density)
pins on every part: 4 V- (power), 8 V+ (power)
part A pins: 1 OUTA (oc), 2 INA- (in), 3 INA+ (in)
part B pins: 5 INB+ (in), 6 INB- (in), 7 OUTB (oc)

## SM72375MMX/NOPB
designator U?
SolarMagic Dual Micro-Power Rail-to-Rail Input CMOS Comparator with Open Drain Output, 8-pin Mini SOIC, 3500 Reel; PartNumber: SM72375MMX/NOPB; Manufacturer: National Semiconductor; PackageTopMarking: ZXTT*S375; PowerWise: N; High-Reliability: Y; DatasheetVersion: May-2011; PackageVersion: revF, Apr-2008; PackageReference: MUA08A; PackageDescription: MINI SOIC, .118 x .118 x .034in, 8 Lead, .0256in Pitch; RoHS: Y; PinCount: 8; CompType: Comparator; Code_JEDEC: MO-187-AA; ComponentLink1Description: Manufacturer URL; ComponentLink1URL: http://www.national.com/; ComponentLink2Description: SM72375 Datasheet; ComponentLink2URL: http://www.national.com/ds/SM/SM72375.pdf; ComponentLink3Description: SM72375 Web Page; ComponentLink3URL: http://www.national.com/pf/SM/SM72375.html; ComponentLink4Description: MUA08A Package Page; ComponentLink4URL: http://www.national.com/packaging/folders/mua08a.html
footprint MUA08A_N (TSOP, 8-Leads, Body 3x3mm, Pitch 0.65mm, IPC Medium Density)
footprint MUA08A_L (TSOP, 8-Leads, Body 3x3mm, Pitch 0.65mm, IPC High Density)
footprint MUA08A_M (TSOP, 8-Leads, Body 3x3mm, Pitch 0.65mm, IPC Low Density)
pins on every part: 4 V- (power), 8 V+ (power)
part A pins: 1 OUTA (oc), 2 INA- (in), 3 INA+ (in)
part B pins: 5 INB+ (in), 6 INB- (in), 7 OUTB (oc)

## SM72375X/NOPB
designator U?
SolarMagic Dual Micro-Power Rail-to-Rail Input CMOS Comparator with Open Drain Output, AECQ 1, 8-pin Mini SOIC, 3500 Reel; PartNumber: SM72375X/NOPB; Manufacturer: National Semiconductor; PackageTopMarking: ZXTT*S375; PowerWise: N; High-Reliability: Y; DatasheetVersion: Mar-2011; PackageVersion: revF, Apr-2008; PackageReference: MUA08A; PackageDescription: MINI SOIC, .118 x .118 x .034in, 8 Lead, .0256in Pitch; RoHS: Y; PinCount: 8; CompType: Comparator; Code_JEDEC: MO-187-AA; ComponentLink1Description: Manufacturer URL; ComponentLink1URL: http://www.national.com/; ComponentLink2Description: SM72375 Datasheet; ComponentLink2URL: http://www.national.com/ds/SM/SM72375.pdf; ComponentLink3Description: SM72375 Web Page; ComponentLink3URL: http://www.national.com/pf/SM/SM72375.html; ComponentLink4Description: MUA08A Package Page; ComponentLink4URL: http://www.national.com/packaging/folders/mua08a.html
footprint MUA08A_N (TSOP, 8-Leads, Body 3x3mm, Pitch 0.65mm, IPC Medium Density)
footprint MUA08A_L (TSOP, 8-Leads, Body 3x3mm, Pitch 0.65mm, IPC High Density)
footprint MUA08A_M (TSOP, 8-Leads, Body 3x3mm, Pitch 0.65mm, IPC Low Density)
pins on every part: 4 V- (power), 8 V+ (power)
part A pins: 1 OUTA (oc), 2 INA- (in), 3 INA+ (in)
part B pins: 5 INB+ (in), 6 INB- (in), 7 OUTB (oc)